# EAGLE library part TEENSY_4.1_SIMPLE (library GTOR - Microcontroller)
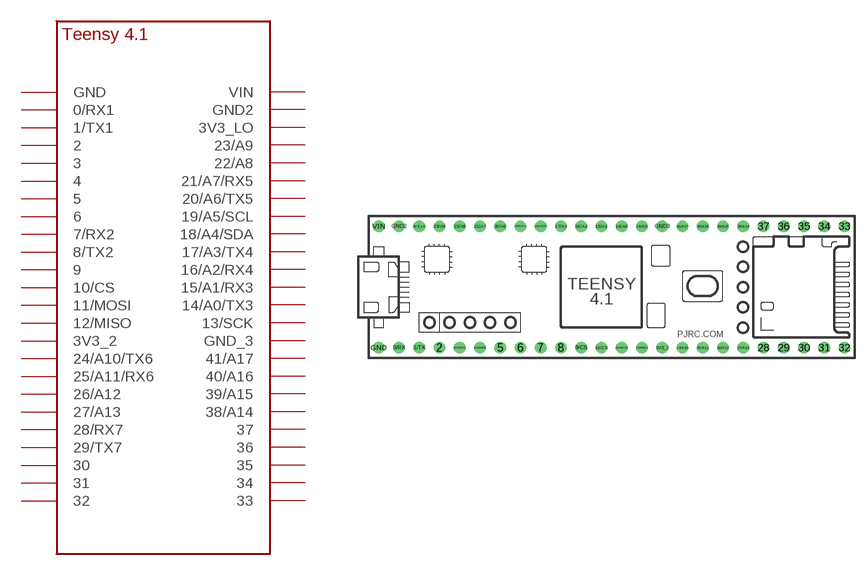
[diagram p2: symbol with the pads of TEENSY_4.1_SIMPLE; footprint TEENSY_4.1_SIMPLE]

Designator prefix -

## TEENSY_4.1_SIMPLE  [TEENSY_4.1_SIMPLE]
0/RX  0/RX1
1/TX  1/TX1
2  2
3/CANTX  3
3V3_2  3V3_2
3V3_LO  3V3_LO
4/CANRX  4
5  5
6  6
7  7/RX2
8  8/TX2
9/CS  9
10/CS  10/CS
11/MOSI  11/MOSI
12/MISO  12/MISO
13/SCK  13/SCK
14/A0  14/A0/TX3
15/A1  15/A1/RX3
16/A2  16/A2/RX4
17/A3  17/A3/TX4
18/A4/SDA  18/A4/SDA
19/A5/SCL  19/A5/SCL
20/A6  20/A6/TX5
21/A7  21/A7/RX5
22/A8  22/A8
23/A9  23/A9
24/A10  24/A10/TX6
25/A11  25/A11/RX6
26/A12  26/A12
27/A13  27/A13
28  28/RX7
29  29/TX7
30  30
31  31
32  32
33  33
34  34
35  35
36  36
37  37
38/A14  38/A14
39/A15  39/A15
40/A16  40/A16
41/A17  41/A17
GND  GND
GND2  GND2
GND3  GND_3
VIN  VIN

## Footprint TEENSY_4.1_SIMPLE (pad centres in mm)
drill 0.965: 0/RX -25.4,-7.62; 1/TX -22.86,-7.62; 2 -20.32,-7.62; 3/CANTX -17.78,-7.62; 3V3_2 7.62,-7.62; 3V3_LO -22.86,7.62; 4/CANRX -15.24,-7.62; 5 -12.7,-7.62; 6 -10.16,-7.62; 7 -7.62,-7.62; 8 -5.08,-7.62; 9/CS -2.54,-7.62; 10/CS 0,-7.62; 11/MOSI 2.54,-7.62; 12/MISO 5.08,-7.62; 13/SCK 5.08,7.62; 14/A0 2.54,7.62; 15/A1 0,7.62; 16/A2 -2.54,7.62; 17/A3 -5.08,7.62; 18/A4/SDA -7.62,7.62; 19/A5/SCL -10.16,7.62; 20/A6 -12.7,7.62; 21/A7 -15.24,7.62; 22/A8 -17.78,7.62; 23/A9 -20.32,7.62; 24/A10 10.16,-7.62; 25/A11 12.7,-7.62; 26/A12 15.24,-7.62; 27/A13 17.78,-7.62; 28 20.32,-7.62; 29 22.86,-7.62; 30 25.4,-7.62; 31 27.94,-7.62; 32 30.48,-7.62; 33 30.48,7.62; 34 27.94,7.62; 35 25.4,7.62; 36 22.86,7.62; 37 20.32,7.62; 38/A14 17.78,7.62; 39/A15 15.24,7.62; 40/A16 12.7,7.62; 41/A17 10.16,7.62; GND -27.94,-7.62; GND2 -25.4,7.62; GND3 7.62,7.62; VIN -27.94,7.62